# EAGLE library part CORTEX_DEBUG (library Eric Navarrete Custom Parts Feb 2019)
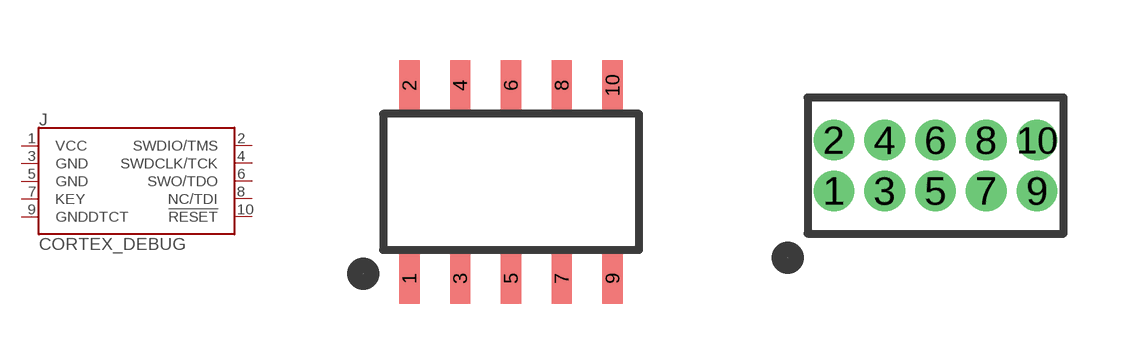
[diagram p21: symbol with the pads of 2X5_1.27MM_SMD_HEADER; footprints 2X5_1.27MM_SMD_HEADER, 2X5_1.27MM_PTH_HEADER]

Designator prefix J

## CORTEX_DEBUGSMD  [2X5_1.27MM_SMD_HEADER]
1  VCC
2  SWDIO/TMS
3  GND
4  SWDCLK/TCK
5  GND
6  SWO/TDO
7  KEY
8  NC/TDI
9  GNDDTCT
10  !RESET

## CORTEX_DEBUGPTH  [2X5_1.27MM_PTH_HEADER]
Pads as for 2X5_1.27MM_SMD_HEADER

## CORTEX_DEBUGPIN_POINT  [2X5_1.27MM_0.7MM_POGO_PIN_POINT]
Pads as for 2X5_1.27MM_SMD_HEADER

## CORTEX_DEBUGPIN_MOUNT  [2X5_1.27MM_0.7MM_POGO_PIN_MOUNT]
Pads as for 2X5_1.27MM_SMD_HEADER

## CORTEX_DEBUGPIN_PAD  [2X5_1.27MM_0.7MM_POGO_PIN_POINT_PAD]
Pads as for 2X5_1.27MM_SMD_HEADER

## Footprint 2X5_1.27MM_SMD_HEADER (pad centres in mm)
smd 0.508 x 1.27: 1 -2.54,-2.413; 2 -2.54,2.413; 3 -1.27,-2.413; 4 -1.27,2.413; 5 0,-2.413; 6 0,2.413; 7 1.27,-2.413; 8 1.27,2.413; 9 2.54,-2.413; 10 2.54,2.413

## Footprint 2X5_1.27MM_PTH_HEADER (pad centres in mm)
drill 0.508 pad 1: 1 -2.54,-0.635; 2 -2.54,0.635; 3 -1.27,-0.635; 4 -1.27,0.635; 5 0,-0.635; 6 0,0.635; 7 1.27,-0.635; 8 1.27,0.635; 9 2.54,-0.635; 10 2.54,0.635

## Footprint 2X5_1.27MM_0.7MM_POGO_PIN_POINT (pad centres in mm)
drill 0.4 pad 0.8 square: 1 -0.635,2.54
drill 0.4 pad 0.8: 2 0.635,2.54; 3 -0.635,1.27; 4 0.635,1.27; 5 -0.635,0; 6 0.635,0; 7 -0.635,-1.27; 8 0.635,-1.27; 9 -0.635,-2.54; 10 0.635,-2.54

## Footprint 2X5_1.27MM_0.7MM_POGO_PIN_MOUNT (pad centres in mm)
drill 0.69 pad 1.1 square: 1 -0.635,2.54
drill 0.69 pad 1.1: 2 0.635,2.54; 3 -0.635,1.27; 4 0.635,1.27; 5 -0.635,0; 6 0.635,0; 7 -0.635,-1.27; 8 0.635,-1.27; 9 -0.635,-2.54; 10 0.635,-2.54

## Footprint 2X5_1.27MM_0.7MM_POGO_PIN_POINT_PAD (pad centres in mm)
smd 0.8 x 0.8: 1 -0.635,2.54; 2 0.635,2.54; 3 -0.635,1.27; 4 0.635,1.27; 5 -0.635,0; 6 0.635,0; 7 -0.635,-1.27; 8 0.635,-1.27; 9 -0.635,-2.54; 10 0.635,-2.54